# EAGLE library part AXICOM_RELAY (library TE)
Datasheet: http://datasheet.octopart.com/5-1393788-7-Tyco-Electronics-datasheet-511509.pdf Axicom Relay used in HV Ctrl Ckt Ndd 11/30
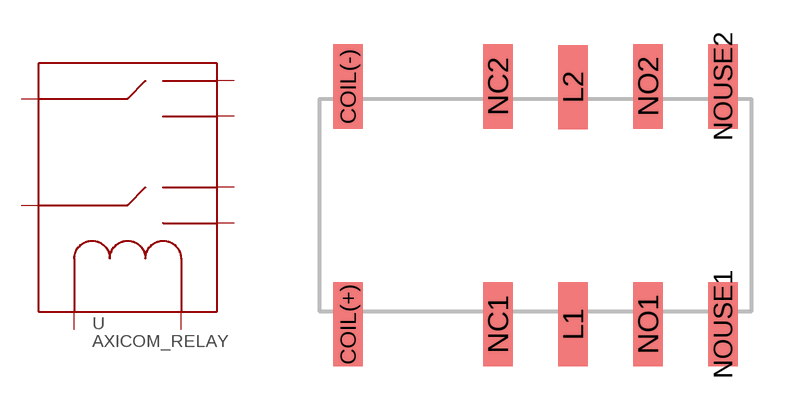
[diagram p2: symbol with the pads of AXICOM_RELAY; footprint AXICOM_RELAY]

Designator prefix -

## AXICOM_RELAY (PARTNO: V23079D1003B301)  [AXICOM_RELAY]
COIL(+)  COIL(+)
COIL(-)  COIL(-)
L1  L1
L2  L2
NC1  NC1
NC2  NC2
NO1  NO1
NO2  NO2

## Footprint AXICOM_RELAY (pad centres in mm)
smd 1 x 2.85: COIL(+) -6.35,-4.025; COIL(-) -6.35,4.025; L1 1.27,-4.025; L2 1.27,4; NC1 -1.27,-4.025; NC2 -1.27,4.025; NO1 3.81,-4.025; NO2 3.81,4.025; NOUSE1 6.35,-4.025; NOUSE2 6.35,4.025